# Altium schematic symbol library SCH - POWER - SWITCHMODE - MAXIM MAX668 MAX669.SCHLIB: 1 symbol
Pins are listed as number, name and electrical type; pins without a type are passive.

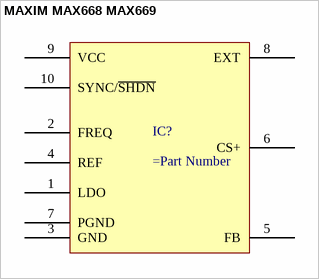
[diagram p0: symbol MAXIM MAX668 MAX669]

## MAXIM MAX668 MAX669
designator IC?
pins: 1 LDO, 2 FREQ, 3 GND, 4 REF, 5 FB, 6 CS+, 7 PGND, 8 EXT, 9 VCC, 10 SYNC/~{SHDN}